# EAGLE library part 50499-010 (library con-aces-50499-series)
ACES CONNECTORS 50499 SERIES ACES Connecors 50499 <https://www.acesconn.com/series/50499-xxxxx-xxx/1229>
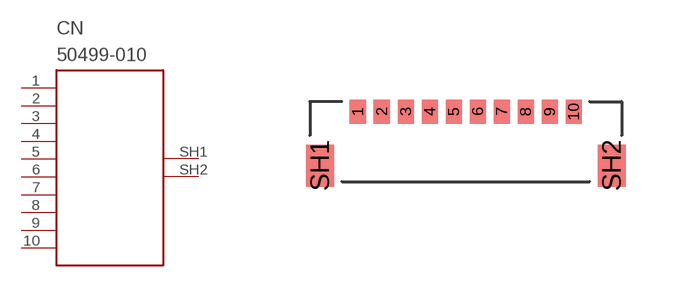
[diagram p5: symbol with the pads of 50499-010; footprint 50499-010]

Designator prefix CN

## 50499-010  [50499-010]
1  1
2  2
3  3
4  4
5  5
6  6
7  7
8  8
9  9
10  10
SH1  SH1
SH2  SH2

## Footprint 50499-010 (pad centres in mm)
smd 0.4 x 0.6: 1 -2.7,0; 2 -2.1,0; 3 -1.5,0; 4 -0.9,0; 5 -0.3,0; 6 0.3,0; 7 0.9,0; 8 1.5,0; 9 2.1,0; 10 2.7,0
smd 0.7 x 1.05: SH1 -3.65,-1.35; SH2 3.65,-1.35